# EAGLE library part TDA1543 (library Miszczo)
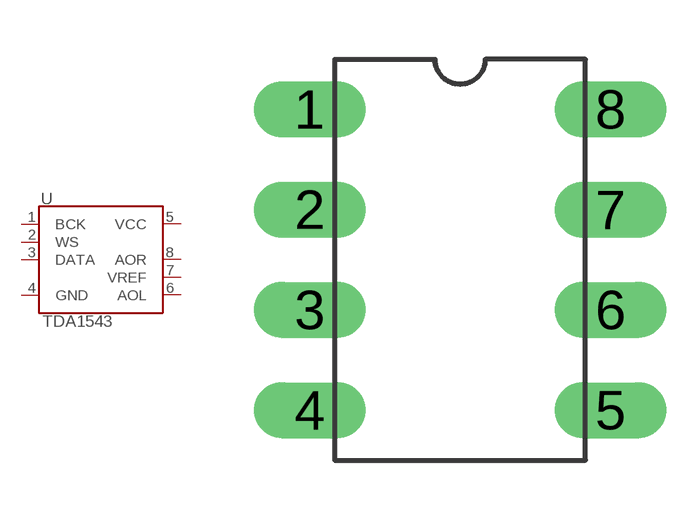
[diagram p0: symbol with the pads of DIL8; footprint DIL8]

Designator prefix U

## TDA1543  [DIL8]
1  BCK
2  WS
3  DATA
4  GND
5  VCC
6  AOL
7  VREF
8  AOR

## Footprint DIL8 (pad centres in mm)
drill 0.8 pad 1.422 long: 1 -3.81,3.81; 2 -3.81,1.27; 3 -3.81,-1.27; 4 -3.81,-3.81; 5 3.81,-3.81; 6 3.81,-1.27; 7 3.81,1.27; 8 3.81,3.81